# Altium schematic symbol library SmartDoor.SchLib: 1 symbol
Pins are listed as number, name and electrical type; pins without a type are passive.

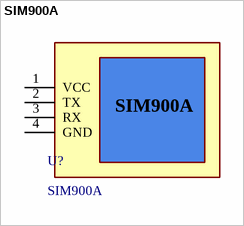
[diagram p0: symbol SIM900A]

## SIM900A
designator U?
pins: 1 VCC, 2 TX, 3 RX, 4 GND